# EAGLE library part MA10 (library DMClock2018)
Male header, 10 poles
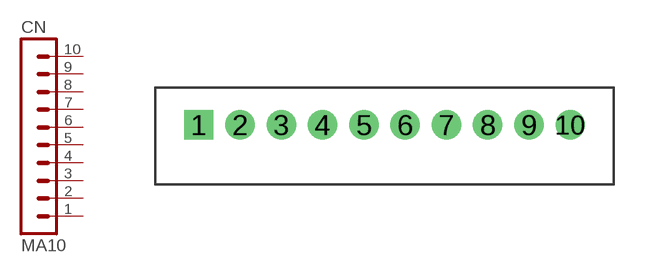
[diagram p7: symbol with the pads of PH10; footprint PH10]

Designator prefix CN

## MA10'PH'  [PH10]
1  1  pas
2  2  pas
3  3  pas
4  4  pas
5  5  pas
6  6  pas
7  7  pas
8  8  pas
9  9  pas
10  10  pas

## Footprint PH10 (pad centres in mm)
drill 0.9 pad 1.422 square: 1 -9,0
drill 0.9 pad 1.422 round: 2 -7,0; 3 -5,0; 4 -3,0; 5 -1,0; 6 1,0; 7 3,0; 8 5,0; 9 7,0; 10 9,0